# EAGLE library part M07X2 (library zephod-components)
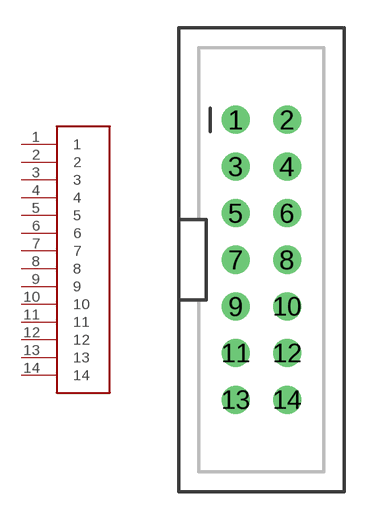
[diagram p16: symbol with the pads of 2X70SHROUDED_LOCK; footprint 2X70SHROUDED_LOCK]

Designator prefix -

## M07X2  [2X70SHROUDED_LOCK]
1  1  out
2  2  out
3  3  out
4  4  out
5  5  out
6  6  out
7  7  out
8  8  out
9  9  out
10  10  out
11  11  out
12  12  out
13  13  out
14  14  out

## Footprint 2X70SHROUDED_LOCK (pad centres in mm)
drill 1.016: 1 -1.397,7.62; 2 1.397,7.62; 3 -1.397,5.08; 4 1.397,5.08; 5 -1.397,2.54; 6 1.397,2.54; 7 -1.397,0; 8 1.397,0; 9 -1.397,-2.54; 10 1.397,-2.54; 11 -1.397,-5.08; 12 1.397,-5.08; 13 -1.397,-7.62; 14 1.397,-7.62